# EAGLE library part STM32F437VXTX (library pel_stm32)
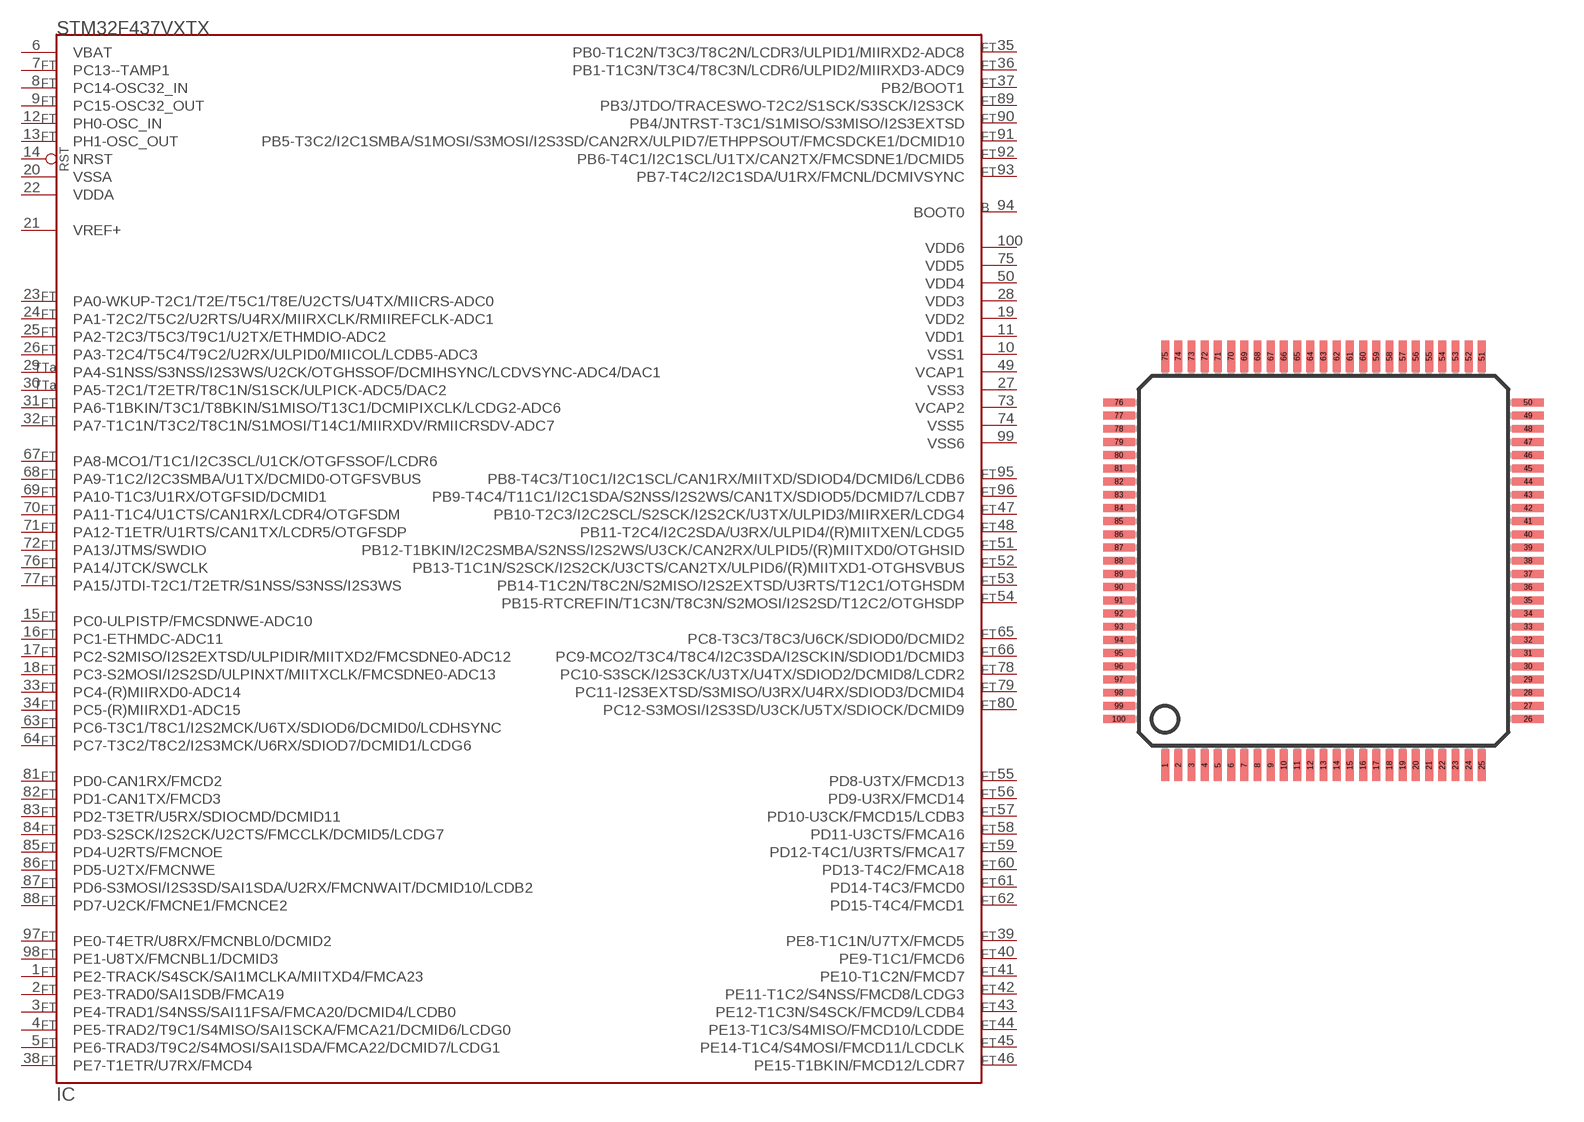
[diagram p11: symbol with the pads of LQFP100; footprint LQFP100]

Designator prefix IC

## STM32F437VXTX  [LQFP100]
1  PE2-TRACK/S4SCK/SAI1MCLKA/MIITXD4/FMCA23
2  PE3-TRAD0/SAI1SDB/FMCA19
3  PE4-TRAD1/S4NSS/SAI11FSA/FMCA20/DCMID4/LCDB0
4  PE5-TRAD2/T9C1/S4MISO/SAI1SCKA/FMCA21/DCMID6/LCDG0
5  PE6-TRAD3/T9C2/S4MOSI/SAI1SDA/FMCA22/DCMID7/LCDG1
6  VBAT  pwr
7  PC13--TAMP1
8  PC14-OSC32_IN
9  PC15-OSC32_OUT
10  VSS1  pwr
11  VDD1  pwr
12  PH0-OSC_IN  in
13  PH1-OSC_OUT
14  NRST
15  PC0-ULPISTP/FMCSDNWE-ADC10
16  PC1-ETHMDC-ADC11
17  PC2-S2MISO/I2S2EXTSD/ULPIDIR/MIITXD2/FMCSDNE0-ADC12
18  PC3-S2MOSI/I2S2SD/ULPINXT/MIITXCLK/FMCSDNE0-ADC13
19  VDD2  pwr
20  VSSA  pwr
21  VREF+
22  VDDA  pwr
23  PA0-WKUP-T2C1/T2E/T5C1/T8E/U2CTS/U4TX/MIICRS-ADC0
24  PA1-T2C2/T5C2/U2RTS/U4RX/MIIRXCLK/RMIIREFCLK-ADC1
25  PA2-T2C3/T5C3/T9C1/U2TX/ETHMDIO-ADC2
26  PA3-T2C4/T5C4/T9C2/U2RX/ULPID0/MIICOL/LCDB5-ADC3
27  VSS3  pwr
28  VDD3  pwr
29  PA4-S1NSS/S3NSS/I2S3WS/U2CK/OTGHSSOF/DCMIHSYNC/LCDVSYNC-ADC4/DAC1
30  PA5-T2C1/T2ETR/T8C1N/S1SCK/ULPICK-ADC5/DAC2
31  PA6-T1BKIN/T3C1/T8BKIN/S1MISO/T13C1/DCMIPIXCLK/LCDG2-ADC6
32  PA7-T1C1N/T3C2/T8C1N/S1MOSI/T14C1/MIIRXDV/RMIICRSDV-ADC7
33  PC4-(R)MIIRXD0-ADC14
34  PC5-(R)MIIRXD1-ADC15
35  PB0-T1C2N/T3C3/T8C2N/LCDR3/ULPID1/MIIRXD2-ADC8
36  PB1-T1C3N/T3C4/T8C3N/LCDR6/ULPID2/MIIRXD3-ADC9
37  PB2/BOOT1
38  PE7-T1ETR/U7RX/FMCD4
39  PE8-T1C1N/U7TX/FMCD5
40  PE9-T1C1/FMCD6
41  PE10-T1C2N/FMCD7
42  PE11-T1C2/S4NSS/FMCD8/LCDG3
43  PE12-T1C3N/S4SCK/FMCD9/LCDB4
44  PE13-T1C3/S4MISO/FMCD10/LCDDE
45  PE14-T1C4/S4MOSI/FMCD11/LCDCLK
46  PE15-T1BKIN/FMCD12/LCDR7
47  PB10-T2C3/I2C2SCL/S2SCK/I2S2CK/U3TX/ULPID3/MIIRXER/LCDG4
48  PB11-T2C4/I2C2SDA/U3RX/ULPID4/(R)MIITXEN/LCDG5
49  VCAP1  pwr
50  VDD4  pwr
51  PB12-T1BKIN/I2C2SMBA/S2NSS/I2S2WS/U3CK/CAN2RX/ULPID5/(R)MIITXD0/OTGHSID
52  PB13-T1C1N/S2SCK/I2S2CK/U3CTS/CAN2TX/ULPID6/(R)MIITXD1-OTGHSVBUS
53  PB14-T1C2N/T8C2N/S2MISO/I2S2EXTSD/U3RTS/T12C1/OTGHSDM
54  PB15-RTCREFIN/T1C3N/T8C3N/S2MOSI/I2S2SD/T12C2/OTGHSDP
55  PD8-U3TX/FMCD13
56  PD9-U3RX/FMCD14
57  PD10-U3CK/FMCD15/LCDB3
58  PD11-U3CTS/FMCA16
59  PD12-T4C1/U3RTS/FMCA17
60  PD13-T4C2/FMCA18
61  PD14-T4C3/FMCD0
62  PD15-T4C4/FMCD1
63  PC6-T3C1/T8C1/I2S2MCK/U6TX/SDIOD6/DCMID0/LCDHSYNC
64  PC7-T3C2/T8C2/I2S3MCK/U6RX/SDIOD7/DCMID1/LCDG6
65  PC8-T3C3/T8C3/U6CK/SDIOD0/DCMID2
66  PC9-MCO2/T3C4/T8C4/I2C3SDA/I2SCKIN/SDIOD1/DCMID3
67  PA8-MCO1/T1C1/I2C3SCL/U1CK/OTGFSSOF/LCDR6
68  PA9-T1C2/I2C3SMBA/U1TX/DCMID0-OTGFSVBUS
69  PA10-T1C3/U1RX/OTGFSID/DCMID1
70  PA11-T1C4/U1CTS/CAN1RX/LCDR4/OTGFSDM
71  PA12-T1ETR/U1RTS/CAN1TX/LCDR5/OTGFSDP
72  PA13/JTMS/SWDIO
73  VCAP2  pwr
74  VSS5  pwr
75  VDD5  pwr
76  PA14/JTCK/SWCLK
77  PA15/JTDI-T2C1/T2ETR/S1NSS/S3NSS/I2S3WS
78  PC10-S3SCK/I2S3CK/U3TX/U4TX/SDIOD2/DCMID8/LCDR2
79  PC11-I2S3EXTSD/S3MISO/U3RX/U4RX/SDIOD3/DCMID4
80  PC12-S3MOSI/I2S3SD/U3CK/U5TX/SDIOCK/DCMID9
81  PD0-CAN1RX/FMCD2
82  PD1-CAN1TX/FMCD3
83  PD2-T3ETR/U5RX/SDIOCMD/DCMID11
84  PD3-S2SCK/I2S2CK/U2CTS/FMCCLK/DCMID5/LCDG7
85  PD4-U2RTS/FMCNOE
86  PD5-U2TX/FMCNWE
87  PD6-S3MOSI/I2S3SD/SAI1SDA/U2RX/FMCNWAIT/DCMID10/LCDB2
88  PD7-U2CK/FMCNE1/FMCNCE2
89  PB3/JTDO/TRACESWO-T2C2/S1SCK/S3SCK/I2S3CK
90  PB4/JNTRST-T3C1/S1MISO/S3MISO/I2S3EXTSD
91  PB5-T3C2/I2C1SMBA/S1MOSI/S3MOSI/I2S3SD/CAN2RX/ULPID7/ETHPPSOUT/FMCSDCKE1/DCMID10
92  PB6-T4C1/I2C1SCL/U1TX/CAN2TX/FMCSDNE1/DCMID5
93  PB7-T4C2/I2C1SDA/U1RX/FMCNL/DCMIVSYNC
94  BOOT0  in
95  PB8-T4C3/T10C1/I2C1SCL/CAN1RX/MIITXD/SDIOD4/DCMID6/LCDB6
96  PB9-T4C4/T11C1/I2C1SDA/S2NSS/I2S2WS/CAN1TX/SDIOD5/DCMID7/LCDB7
97  PE0-T4ETR/U8RX/FMCNBL0/DCMID2
98  PE1-U8TX/FMCNBL1/DCMID3
99  VSS6  pwr
100  VDD6  pwr

## Footprint LQFP100 (pad centres in mm)
smd 0.3 x 1.2: 1 -6,-7.75; 2 -5.5,-7.75; 3 -5,-7.75; 4 -4.5,-7.75; 5 -4,-7.75; 6 -3.5,-7.75; 7 -3,-7.75; 8 -2.5,-7.75; 9 -2,-7.75; 10 -1.5,-7.75; 11 -1,-7.75; 12 -0.5,-7.75; 13 0,-7.75; 14 0.5,-7.75; 15 1,-7.75; 16 1.5,-7.75; 17 2,-7.75; 18 2.5,-7.75; 19 3,-7.75; 20 3.5,-7.75; 21 4,-7.75; 22 4.5,-7.75; 23 5,-7.75; 24 5.5,-7.75; 25 6,-7.75; 51 6,7.75; 52 5.5,7.75; 53 5,7.75; 54 4.5,7.75; 55 4,7.75; 56 3.5,7.75; 57 3,7.75; 58 2.5,7.75; 59 2,7.75; 60 1.5,7.75; 61 1,7.75; 62 0.5,7.75; 63 0,7.75; 64 -0.5,7.75; 65 -1,7.75; 66 -1.5,7.75; 67 -2,7.75; 68 -2.5,7.75; 69 -3,7.75; 70 -3.5,7.75; 71 -4,7.75; 72 -4.5,7.75; 73 -5,7.75; 74 -5.5,7.75; 75 -6,7.75
smd 1.2 x 0.3: 26 7.75,-6; 27 7.75,-5.5; 28 7.75,-5; 29 7.75,-4.5; 30 7.75,-4; 31 7.75,-3.5; 32 7.75,-3; 33 7.75,-2.5; 34 7.75,-2; 35 7.75,-1.5; 36 7.75,-1; 37 7.75,-0.5; 38 7.75,0; 39 7.75,0.5; 40 7.75,1; 41 7.75,1.5; 42 7.75,2; 43 7.75,2.5; 44 7.75,3; 45 7.75,3.5; 46 7.75,4; 47 7.75,4.5; 48 7.75,5; 49 7.75,5.5; 50 7.75,6; 76 -7.75,6; 77 -7.75,5.5; 78 -7.75,5; 79 -7.75,4.5; 80 -7.75,4; 81 -7.75,3.5; 82 -7.75,3; 83 -7.75,2.5; 84 -7.75,2; 85 -7.75,1.5; 86 -7.75,1; 87 -7.75,0.5; 88 -7.75,0; 89 -7.75,-0.5; 90 -7.75,-1; 91 -7.75,-1.5; 92 -7.75,-2; 93 -7.75,-2.5; 94 -7.75,-3; 95 -7.75,-3.5; 96 -7.75,-4; 97 -7.75,-4.5; 98 -7.75,-5; 99 -7.75,-5.5; 100 -7.75,-6